# Altium integrated library ALTIUM-WE-LQS-rev18a.IntLib: 212 symbols (part 3 of 3)
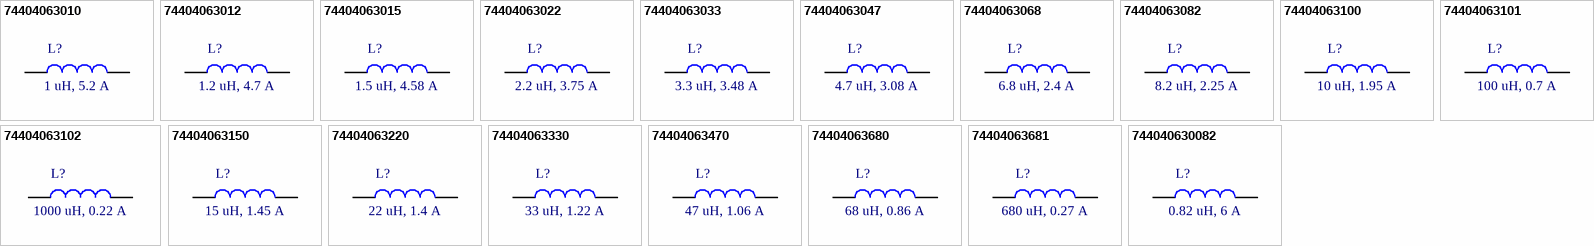
[diagram p14: symbols 74404063010 to 744040630082]

## 74404063470
designator L?, comment 47 uH, 1.06 A
SMT Semi-Shielded Power Inductor WE-LQS, size 6028, 47 uH, 1.06 A; Part Number: 74404063470; Rated Current: 1.06 A; Inductance: 47 uH; DC Resistance max.: 409.5 mOhm; Self Resonant Frequency: 14 MHz; Saturation Current: 1.3 A; ComponentLink1Description: Manufacturer; ComponentLink1URL: http://www.we-online.de; ComponentLink2Description: Datasheet; ComponentLink2URL: https://katalog.we-online.de/pbs/datasheet/74404063470.pdf; Published Date: November 2018; Publisher: Wurth Elektronik; Size: 6028; Operating Temperature: -40 to +125 degC; Mounting Technology: SMT; Packaging: Tape and Reel
footprint WE-LQS_6028
pins: 1, 2

## 74404063680
designator L?, comment 68 uH, 0.86 A
SMT Semi-Shielded Power Inductor WE-LQS, size 6028, 68 uH, 0.86 A; Part Number: 74404063680; Rated Current: 0.86 A; Inductance: 68 uH; DC Resistance max.: 468 mOhm; Self Resonant Frequency: 11 MHz; Saturation Current: 0.88 A; ComponentLink1Description: Manufacturer; ComponentLink1URL: http://www.we-online.de; ComponentLink2Description: Datasheet; ComponentLink2URL: https://katalog.we-online.de/pbs/datasheet/74404063680.pdf; Published Date: November 2018; Publisher: Wurth Elektronik; Size: 6028; Operating Temperature: -40 to +125 degC; Mounting Technology: SMT; Packaging: Tape and Reel
footprint WE-LQS_6028
pins: 1, 2

## 74404063681
designator L?, comment 680 uH, 0.27 A
SMT Semi-Shielded Power Inductor WE-LQS, size 6028, 680 uH, 0.27 A; Part Number: 74404063681; Rated Current: 0.27 A; Inductance: 680 uH; DC Resistance max.: 7183.8 mOhm; Self Resonant Frequency: 3 MHz; Saturation Current: 0.29 A; ComponentLink1Description: Manufacturer; ComponentLink1URL: http://www.we-online.de; ComponentLink2Description: Datasheet; ComponentLink2URL: https://katalog.we-online.de/pbs/datasheet/74404063681.pdf; Published Date: November 2018; Publisher: Wurth Elektronik; Size: 6028; Operating Temperature: -40 to +125 degC; Mounting Technology: SMT; Packaging: Tape and Reel
footprint WE-LQS_6028
pins: 1, 2

## 744040630082
designator L?, comment 0.82 uH, 6 A
SMT Semi-Shielded Power Inductor WE-LQS, size 6028, 0.82 uH, 6 A; Part Number: 744040630082; Rated Current: 6 A; Inductance: 0.82 uH; DC Resistance max.: 13 mOhm; Self Resonant Frequency: 144 MHz; Saturation Current: 9.5 A; ComponentLink1Description: Manufacturer; ComponentLink1URL: http://www.we-online.de; ComponentLink2Description: Datasheet; ComponentLink2URL: https://katalog.we-online.de/pbs/datasheet/744040630082.pdf; Published Date: November 2018; Publisher: Wurth Elektronik; Size: 6028; Operating Temperature: -40 to +125 degC; Mounting Technology: SMT; Packaging: Tape and Reel
footprint WE-LQS_6028
pins: 1, 2


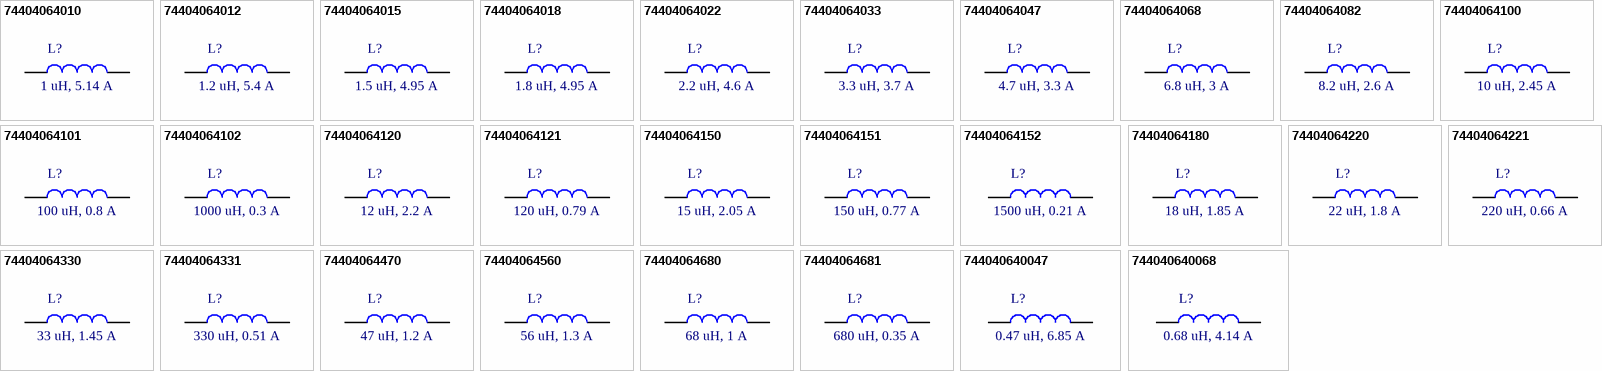
[diagram p10: symbols 74404064010 to 744040640068]

## 74404064010
designator L?, comment 1 uH, 5.14 A
SMT Semi-Shielded Power Inductor WE-LQS, size 6045, 1 uH, 5.14 A; Part Number: 74404064010; Rated Current: 5.14 A; Inductance: 1 uH; DC Resistance max.: 14.3 mOhm; Self Resonant Frequency: 100 MHz; Saturation Current: 11 A; ComponentLink1Description: Manufacturer; ComponentLink1URL: http://www.we-online.de; ComponentLink2Description: Datasheet; ComponentLink2URL: https://katalog.we-online.de/pbs/datasheet/74404064010.pdf; Published Date: November 2018; Publisher: Wurth Elektronik; Size: 6045; Operating Temperature: -40 to +125 degC; Mounting Technology: SMT; Packaging: Tape and Reel
footprint WE-LQS_6045
pins: 1, 2

## 74404064012
designator L?, comment 1.2 uH, 5.4 A
SMT Semi-Shielded Power Inductor WE-LQS, size 6045, 1.2 uH, 5.4 A; Part Number: 74404064012; Rated Current: 5.4 A; Inductance: 1.2 uH; DC Resistance max.: 13 mOhm; Self Resonant Frequency: 100 MHz; Saturation Current: 10.5 A; ComponentLink1Description: Manufacturer; ComponentLink1URL: http://www.we-online.de; ComponentLink2Description: Datasheet; ComponentLink2URL: https://katalog.we-online.de/pbs/datasheet/74404064012.pdf; Published Date: November 2018; Publisher: Wurth Elektronik; Size: 6045; Operating Temperature: -40 to +125 degC; Mounting Technology: SMT; Packaging: Tape and Reel
footprint WE-LQS_6045
pins: 1, 2

## 74404064015
designator L?, comment 1.5 uH, 4.95 A
SMT Semi-Shielded Power Inductor WE-LQS, size 6045, 1.5 uH, 4.95 A; Part Number: 74404064015; Rated Current: 4.95 A; Inductance: 1.5 uH; DC Resistance max.: 15.6 mOhm; Self Resonant Frequency: 65 MHz; Saturation Current: 9.7 A; ComponentLink1Description: Manufacturer; ComponentLink1URL: http://www.we-online.de; ComponentLink2Description: Datasheet; ComponentLink2URL: https://katalog.we-online.de/pbs/datasheet/74404064015.pdf; Published Date: November 2018; Publisher: Wurth Elektronik; Size: 6045; Operating Temperature: -40 to +125 degC; Mounting Technology: SMT; Packaging: Tape and Reel
footprint WE-LQS_6045
pins: 1, 2

## 74404064018
designator L?, comment 1.8 uH, 4.95 A
SMT Semi-Shielded Power Inductor WE-LQS, size 6045, 1.8 uH, 4.95 A; Part Number: 74404064018; Rated Current: 4.95 A; Inductance: 1.8 uH; DC Resistance max.: 15.6 mOhm; Self Resonant Frequency: 74 MHz; Saturation Current: 8.4 A; ComponentLink1Description: Manufacturer; ComponentLink1URL: http://www.we-online.de; ComponentLink2Description: Datasheet; ComponentLink2URL: https://katalog.we-online.de/pbs/datasheet/74404064018.pdf; Published Date: November 2018; Publisher: Wurth Elektronik; Size: 6045; Operating Temperature: -40 to +125 degC; Mounting Technology: SMT; Packaging: Tape and Reel
footprint WE-LQS_6045
pins: 1, 2

## 74404064022
designator L?, comment 2.2 uH, 4.6 A
SMT Semi-Shielded Power Inductor WE-LQS, size 6045, 2.2 uH, 4.6 A; Part Number: 74404064022; Rated Current: 4.6 A; Inductance: 2.2 uH; DC Resistance max.: 18.2 mOhm; Self Resonant Frequency: 52 MHz; Saturation Current: 7.4 A; ComponentLink1Description: Manufacturer; ComponentLink1URL: http://www.we-online.de; ComponentLink2Description: Datasheet; ComponentLink2URL: https://katalog.we-online.de/pbs/datasheet/74404064022.pdf; Published Date: November 2018; Publisher: Wurth Elektronik; Size: 6045; Operating Temperature: -40 to +125 degC; Mounting Technology: SMT; Packaging: Tape and Reel
footprint WE-LQS_6045
pins: 1, 2

## 74404064033
designator L?, comment 3.3 uH, 3.7 A
SMT Semi-Shielded Power Inductor WE-LQS, size 6045, 3.3 uH, 3.7 A; Part Number: 74404064033; Rated Current: 3.7 A; Inductance: 3.3 uH; DC Resistance max.: 27.3 mOhm; Self Resonant Frequency: 32 MHz; Saturation Current: 6.5 A; ComponentLink1Description: Manufacturer; ComponentLink1URL: http://www.we-online.de; ComponentLink2Description: Datasheet; ComponentLink2URL: https://katalog.we-online.de/pbs/datasheet/74404064033.pdf; Published Date: November 2018; Publisher: Wurth Elektronik; Size: 6045; Operating Temperature: -40 to +125 degC; Mounting Technology: SMT; Packaging: Tape and Reel
footprint WE-LQS_6045
pins: 1, 2

## 74404064047
designator L?, comment 4.7 uH, 3.3 A
SMT Semi-Shielded Power Inductor WE-LQS, size 6045, 4.7 uH, 3.3 A; Part Number: 74404064047; Rated Current: 3.3 A; Inductance: 4.7 uH; DC Resistance max.: 33.8 mOhm; Self Resonant Frequency: 24 MHz; Saturation Current: 5.5 A; ComponentLink1Description: Manufacturer; ComponentLink1URL: http://www.we-online.de; ComponentLink2Description: Datasheet; ComponentLink2URL: https://katalog.we-online.de/pbs/datasheet/74404064047.pdf; Published Date: November 2018; Publisher: Wurth Elektronik; Size: 6045; Operating Temperature: -40 to +125 degC; Mounting Technology: SMT; Packaging: Tape and Reel
footprint WE-LQS_6045
pins: 1, 2

## 74404064068
designator L?, comment 6.8 uH, 3 A
SMT Semi-Shielded Power Inductor WE-LQS, size 6045, 6.8 uH, 3 A; Part Number: 74404064068; Rated Current: 3 A; Inductance: 6.8 uH; DC Resistance max.: 40.3 mOhm; Self Resonant Frequency: 20 MHz; Saturation Current: 4.3 A; ComponentLink1Description: Manufacturer; ComponentLink1URL: http://www.we-online.de; ComponentLink2Description: Datasheet; ComponentLink2URL: https://katalog.we-online.de/pbs/datasheet/74404064068.pdf; Published Date: November 2018; Publisher: Wurth Elektronik; Size: 6045; Operating Temperature: -40 to +125 degC; Mounting Technology: SMT; Packaging: Tape and Reel
footprint WE-LQS_6045
pins: 1, 2

## 74404064082
designator L?, comment 8.2 uH, 2.6 A
SMT Semi-Shielded Power Inductor WE-LQS, size 6045, 8.2 uH, 2.6 A; Part Number: 74404064082; Rated Current: 2.6 A; Inductance: 8.2 uH; DC Resistance max.: 55.9 mOhm; Self Resonant Frequency: 21 MHz; Saturation Current: 4.3 A; ComponentLink1Description: Manufacturer; ComponentLink1URL: http://www.we-online.de; ComponentLink2Description: Datasheet; ComponentLink2URL: https://katalog.we-online.de/pbs/datasheet/74404064082.pdf; Published Date: November 2018; Publisher: Wurth Elektronik; Size: 6045; Operating Temperature: -40 to +125 degC; Mounting Technology: SMT; Packaging: Tape and Reel
footprint WE-LQS_6045
pins: 1, 2

## 74404064100
designator L?, comment 10 uH, 2.45 A
SMT Semi-Shielded Power Inductor WE-LQS, size 6045, 10 uH, 2.45 A; Part Number: 74404064100; Rated Current: 2.45 A; Inductance: 10 uH; DC Resistance max.: 62.4 mOhm; Self Resonant Frequency: 15 MHz; Saturation Current: 3.5 A; ComponentLink1Description: Manufacturer; ComponentLink1URL: http://www.we-online.de; ComponentLink2Description: Datasheet; ComponentLink2URL: https://katalog.we-online.de/pbs/datasheet/74404064100.pdf; Published Date: November 2018; Publisher: Wurth Elektronik; Size: 6045; Operating Temperature: -40 to +125 degC; Mounting Technology: SMT; Packaging: Tape and Reel
footprint WE-LQS_6045
pins: 1, 2

## 74404064101
designator L?, comment 100 uH, 0.8 A
SMT Semi-Shielded Power Inductor WE-LQS, size 6045, 100 uH, 0.8 A; Part Number: 74404064101; Rated Current: 0.8 A; Inductance: 100 uH; DC Resistance max.: 562.9 mOhm; Self Resonant Frequency: 4.2 MHz; Saturation Current: 1 A; ComponentLink1Description: Manufacturer; ComponentLink1URL: http://www.we-online.de; ComponentLink2Description: Datasheet; ComponentLink2URL: https://katalog.we-online.de/pbs/datasheet/74404064101.pdf; Published Date: November 2018; Publisher: Wurth Elektronik; Size: 6045; Operating Temperature: -40 to +125 degC; Mounting Technology: SMT; Packaging: Tape and Reel
footprint WE-LQS_6045
pins: 1, 2

## 74404064102
designator L?, comment 1000 uH, 0.3 A
SMT Semi-Shielded Power Inductor WE-LQS, size 6045, 1000 uH, 0.3 A; Part Number: 74404064102; Rated Current: 0.3 A; Inductance: 1000 uH; DC Resistance max.: 6217.9 mOhm; Self Resonant Frequency: 1.86 MHz; Saturation Current: 0.37 A; ComponentLink1Description: Manufacturer; ComponentLink1URL: http://www.we-online.de; ComponentLink2Description: Datasheet; ComponentLink2URL: https://katalog.we-online.de/pbs/datasheet/74404064102.pdf; Published Date: November 2018; Publisher: Wurth Elektronik; Size: 6045; Operating Temperature: -40 to +125 degC; Mounting Technology: SMT; Packaging: Tape and Reel
footprint WE-LQS_6045
pins: 1, 2

## 74404064120
designator L?, comment 12 uH, 2.2 A
SMT Semi-Shielded Power Inductor WE-LQS, size 6045, 12 uH, 2.2 A; Part Number: 74404064120; Rated Current: 2.2 A; Inductance: 12 uH; DC Resistance max.: 75.4 mOhm; Self Resonant Frequency: 13 MHz; Saturation Current: 3 A; ComponentLink1Description: Manufacturer; ComponentLink1URL: http://www.we-online.de; ComponentLink2Description: Datasheet; ComponentLink2URL: https://katalog.we-online.de/pbs/datasheet/74404064120.pdf; Published Date: November 2018; Publisher: Wurth Elektronik; Size: 6045; Operating Temperature: -40 to +125 degC; Mounting Technology: SMT; Packaging: Tape and Reel
footprint WE-LQS_6045
pins: 1, 2

## 74404064121
designator L?, comment 120 uH, 0.79 A
SMT Semi-Shielded Power Inductor WE-LQS, size 6045, 120 uH, 0.79 A; Part Number: 74404064121; Rated Current: 0.79 A; Inductance: 120 uH; DC Resistance max.: 676 mOhm; Self Resonant Frequency: 5.78 MHz; Saturation Current: 0.98 A; ComponentLink1Description: Manufacturer; ComponentLink1URL: http://www.we-online.de; ComponentLink2Description: Datasheet; ComponentLink2URL: https://katalog.we-online.de/pbs/datasheet/74404064121.pdf; Published Date: November 2018; Publisher: Wurth Elektronik; Size: 6045; Operating Temperature: -40 to +125 degC; Mounting Technology: SMT; Packaging: Tape and Reel
footprint WE-LQS_6045
pins: 1, 2

## 74404064150
designator L?, comment 15 uH, 2.05 A
SMT Semi-Shielded Power Inductor WE-LQS, size 6045, 15 uH, 2.05 A; Part Number: 74404064150; Rated Current: 2.05 A; Inductance: 15 uH; DC Resistance max.: 88.4 mOhm; Self Resonant Frequency: 12 MHz; Saturation Current: 2.7 A; ComponentLink1Description: Manufacturer; ComponentLink1URL: http://www.we-online.de; ComponentLink2Description: Datasheet; ComponentLink2URL: https://katalog.we-online.de/pbs/datasheet/74404064150.pdf; Published Date: November 2018; Publisher: Wurth Elektronik; Size: 6045; Operating Temperature: -40 to +125 degC; Mounting Technology: SMT; Packaging: Tape and Reel
footprint WE-LQS_6045
pins: 1, 2

## 74404064151
designator L?, comment 150 uH, 0.77 A
SMT Semi-Shielded Power Inductor WE-LQS, size 6045, 150 uH, 0.77 A; Part Number: 74404064151; Rated Current: 0.77 A; Inductance: 150 uH; DC Resistance max.: 741 mOhm; Self Resonant Frequency: 5.4 MHz; Saturation Current: 0.93 A; ComponentLink1Description: Manufacturer; ComponentLink1URL: http://www.we-online.de; ComponentLink2Description: Datasheet; ComponentLink2URL: https://katalog.we-online.de/pbs/datasheet/74404064151.pdf; Published Date: November 2018; Publisher: Wurth Elektronik; Size: 6045; Operating Temperature: -40 to +125 degC; Mounting Technology: SMT; Packaging: Tape and Reel
footprint WE-LQS_6045
pins: 1, 2

## 74404064152
designator L?, comment 1500 uH, 0.21 A
SMT Semi-Shielded Power Inductor WE-LQS, size 6045, 1500 uH, 0.21 A; Part Number: 74404064152; Rated Current: 0.21 A; Inductance: 1500 uH; DC Resistance max.: 9085.7 mOhm; Self Resonant Frequency: 1.32 MHz; Saturation Current: 0.28 A; ComponentLink1Description: Manufacturer; ComponentLink1URL: http://www.we-online.de; ComponentLink2Description: Datasheet; ComponentLink2URL: https://katalog.we-online.de/pbs/datasheet/74404064152.pdf; Published Date: November 2018; Publisher: Wurth Elektronik; Size: 6045; Operating Temperature: -40 to +125 degC; Mounting Technology: SMT; Packaging: Tape and Reel
footprint WE-LQS_6045
pins: 1, 2

## 74404064180
designator L?, comment 18 uH, 1.85 A
SMT Semi-Shielded Power Inductor WE-LQS, size 6045, 18 uH, 1.85 A; Part Number: 74404064180; Rated Current: 1.85 A; Inductance: 18 uH; DC Resistance max.: 105.3 mOhm; Self Resonant Frequency: 10 MHz; Saturation Current: 2.4 A; ComponentLink1Description: Manufacturer; ComponentLink1URL: http://www.we-online.de; ComponentLink2Description: Datasheet; ComponentLink2URL: https://katalog.we-online.de/pbs/datasheet/74404064180.pdf; Published Date: November 2018; Publisher: Wurth Elektronik; Size: 6045; Operating Temperature: -40 to +125 degC; Mounting Technology: SMT; Packaging: Tape and Reel
footprint WE-LQS_6045
pins: 1, 2

## 74404064220
designator L?, comment 22 uH, 1.8 A
SMT Semi-Shielded Power Inductor WE-LQS, size 6045, 22 uH, 1.8 A; Part Number: 74404064220; Rated Current: 1.8 A; Inductance: 22 uH; DC Resistance max.: 115.7 mOhm; Self Resonant Frequency: 10 MHz; Saturation Current: 2.2 A; ComponentLink1Description: Manufacturer; ComponentLink1URL: http://www.we-online.de; ComponentLink2Description: Datasheet; ComponentLink2URL: https://katalog.we-online.de/pbs/datasheet/74404064220.pdf; Published Date: November 2018; Publisher: Wurth Elektronik; Size: 6045; Operating Temperature: -40 to +125 degC; Mounting Technology: SMT; Packaging: Tape and Reel
footprint WE-LQS_6045
pins: 1, 2

## 74404064221
designator L?, comment 220 uH, 0.66 A
SMT Semi-Shielded Power Inductor WE-LQS, size 6045, 220 uH, 0.66 A; Part Number: 74404064221; Rated Current: 0.66 A; Inductance: 220 uH; DC Resistance max.: 1105 mOhm; Self Resonant Frequency: 3.97 MHz; Saturation Current: 0.75 A; ComponentLink1Description: Manufacturer; ComponentLink1URL: http://www.we-online.de; ComponentLink2Description: Datasheet; ComponentLink2URL: https://katalog.we-online.de/pbs/datasheet/74404064221.pdf; Published Date: November 2018; Publisher: Wurth Elektronik; Size: 6045; Operating Temperature: -40 to +125 degC; Mounting Technology: SMT; Packaging: Tape and Reel
footprint WE-LQS_6045
pins: 1, 2

## 74404064330
designator L?, comment 33 uH, 1.45 A
SMT Semi-Shielded Power Inductor WE-LQS, size 6045, 33 uH, 1.45 A; Part Number: 74404064330; Rated Current: 1.45 A; Inductance: 33 uH; DC Resistance max.: 178.1 mOhm; Self Resonant Frequency: 7.8 MHz; Saturation Current: 1.8 A; ComponentLink1Description: Manufacturer; ComponentLink1URL: http://www.we-online.de; ComponentLink2Description: Datasheet; ComponentLink2URL: https://katalog.we-online.de/pbs/datasheet/74404064330.pdf; Published Date: November 2018; Publisher: Wurth Elektronik; Size: 6045; Operating Temperature: -40 to +125 degC; Mounting Technology: SMT; Packaging: Tape and Reel
footprint WE-LQS_6045
pins: 1, 2

## 74404064331
designator L?, comment 330 uH, 0.51 A
SMT Semi-Shielded Power Inductor WE-LQS, size 6045, 330 uH, 0.51 A; Part Number: 74404064331; Rated Current: 0.51 A; Inductance: 330 uH; DC Resistance max.: 1530.1 mOhm; Self Resonant Frequency: 3.42 MHz; Saturation Current: 0.65 A; ComponentLink1Description: Manufacturer; ComponentLink1URL: http://www.we-online.de; ComponentLink2Description: Datasheet; ComponentLink2URL: https://katalog.we-online.de/pbs/datasheet/74404064331.pdf; Published Date: November 2018; Publisher: Wurth Elektronik; Size: 6045; Operating Temperature: -40 to +125 degC; Mounting Technology: SMT; Packaging: Tape and Reel
footprint WE-LQS_6045
pins: 1, 2

## 74404064470
designator L?, comment 47 uH, 1.2 A
SMT Semi-Shielded Power Inductor WE-LQS, size 6045, 47 uH, 1.2 A; Part Number: 74404064470; Rated Current: 1.2 A; Inductance: 47 uH; DC Resistance max.: 260 mOhm; Self Resonant Frequency: 6.4 MHz; Saturation Current: 1.5 A; ComponentLink1Description: Manufacturer; ComponentLink1URL: http://www.we-online.de; ComponentLink2Description: Datasheet; ComponentLink2URL: https://katalog.we-online.de/pbs/datasheet/74404064470.pdf; Published Date: November 2018; Publisher: Wurth Elektronik; Size: 6045; Operating Temperature: -40 to +125 degC; Mounting Technology: SMT; Packaging: Tape and Reel
footprint WE-LQS_6045
pins: 1, 2

## 74404064560
designator L?, comment 56 uH, 1.3 A
SMT Semi-Shielded Power Inductor WE-LQS, size 6045, 56 uH, 1.3 A; Part Number: 74404064560; Rated Current: 1.3 A; Inductance: 56 uH; DC Resistance max.: 286 mOhm; Self Resonant Frequency: 8.3 MHz; Saturation Current: 1.5 A; ComponentLink1Description: Manufacturer; ComponentLink1URL: http://www.we-online.de; ComponentLink2Description: Datasheet; ComponentLink2URL: https://katalog.we-online.de/pbs/datasheet/74404064560.pdf; Published Date: November 2018; Publisher: Wurth Elektronik; Size: 6045; Operating Temperature: -40 to +125 degC; Mounting Technology: SMT; Packaging: Tape and Reel
footprint WE-LQS_6045
pins: 1, 2

## 74404064680
designator L?, comment 68 uH, 1 A
SMT Semi-Shielded Power Inductor WE-LQS, size 6045, 68 uH, 1 A; Part Number: 74404064680; Rated Current: 1 A; Inductance: 68 uH; DC Resistance max.: 375.7 mOhm; Self Resonant Frequency: 6.4 MHz; Saturation Current: 1.3 A; ComponentLink1Description: Manufacturer; ComponentLink1URL: http://www.we-online.de; ComponentLink2Description: Datasheet; ComponentLink2URL: https://katalog.we-online.de/pbs/datasheet/74404064680.pdf; Published Date: November 2018; Publisher: Wurth Elektronik; Size: 6045; Operating Temperature: -40 to +125 degC; Mounting Technology: SMT; Packaging: Tape and Reel
footprint WE-LQS_6045
pins: 1, 2

## 74404064681
designator L?, comment 680 uH, 0.35 A
SMT Semi-Shielded Power Inductor WE-LQS, size 6045, 680 uH, 0.35 A; Part Number: 74404064681; Rated Current: 0.35 A; Inductance: 680 uH; DC Resistance max.: 3445 mOhm; Self Resonant Frequency: 1.95 MHz; Saturation Current: 0.42 A; ComponentLink1Description: Manufacturer; ComponentLink1URL: http://www.we-online.de; ComponentLink2Description: Datasheet; ComponentLink2URL: https://katalog.we-online.de/pbs/datasheet/74404064681.pdf; Published Date: November 2018; Publisher: Wurth Elektronik; Size: 6045; Operating Temperature: -40 to +125 degC; Mounting Technology: SMT; Packaging: Tape and Reel
footprint WE-LQS_6045
pins: 1, 2

## 744040640047
designator L?, comment 0.47 uH, 6.85 A
SMT Semi-Shielded Power Inductor WE-LQS, size 6045, 0.47 uH, 6.85 A; Part Number: 744040640047; Rated Current: 6.85 A; Inductance: 0.47 uH; DC Resistance max.: 7.8 mOhm; Self Resonant Frequency: 235 MHz; Saturation Current: 16 A; ComponentLink1Description: Manufacturer; ComponentLink1URL: http://www.we-online.de; ComponentLink2Description: Datasheet; ComponentLink2URL: https://katalog.we-online.de/pbs/datasheet/744040640047.pdf; Published Date: November 2018; Publisher: Wurth Elektronik; Size: 6045; Operating Temperature: -40 to +125 degC; Mounting Technology: SMT; Packaging: Tape and Reel
footprint WE-LQS_6045
pins: 1, 2

## 744040640068
designator L?, comment 0.68 uH, 4.14 A
SMT Semi-Shielded Power Inductor WE-LQS, size 6045, 0.68 uH, 4.14 A; Part Number: 744040640068; Rated Current: 4.14 A; Inductance: 0.68 uH; DC Resistance max.: 13 mOhm; Self Resonant Frequency: 169 MHz; Saturation Current: 10 A; ComponentLink1Description: Manufacturer; ComponentLink1URL: http://www.we-online.de; ComponentLink2Description: Datasheet; ComponentLink2URL: https://katalog.we-online.de/pbs/datasheet/744040640068.pdf; Published Date: November 2018; Publisher: Wurth Elektronik; Size: 6045; Operating Temperature: -40 to +125 degC; Mounting Technology: SMT; Packaging: Tape and Reel
footprint WE-LQS_6045
pins: 1, 2


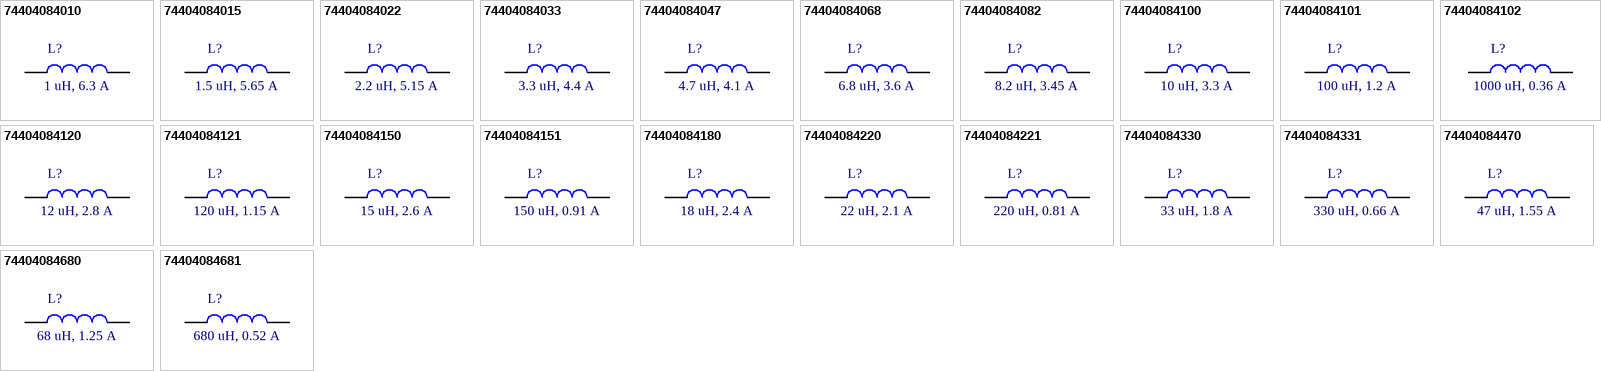
[diagram p11: symbols 74404084010 to 74404084681]

## 74404084010
designator L?, comment 1 uH, 6.3 A
SMT Semi-Shielded Power Inductor WE-LQS, size 8040, 1 uH, 6.3 A; Part Number: 74404084010; Rated Current: 6.3 A; Inductance: 1 uH; DC Resistance max.: 10.4 mOhm; Self Resonant Frequency: 89 MHz; Saturation Current: 13.5 A; ComponentLink1Description: Manufacturer; ComponentLink1URL: http://www.we-online.de; ComponentLink2Description: Datasheet; ComponentLink2URL: https://katalog.we-online.de/pbs/datasheet/74404084010.pdf; Published Date: November 2018; Publisher: Wurth Elektronik; Size: 8040; Operating Temperature: -40 to +125 degC; Mounting Technology: SMT; Packaging: Tape and Reel
footprint WE-LQS_8040
pins: 1, 2

## 74404084015
designator L?, comment 1.5 uH, 5.65 A
SMT Semi-Shielded Power Inductor WE-LQS, size 8040, 1.5 uH, 5.65 A; Part Number: 74404084015; Rated Current: 5.65 A; Inductance: 1.5 uH; DC Resistance max.: 13 mOhm; Self Resonant Frequency: 67 MHz; Saturation Current: 9 A; ComponentLink1Description: Manufacturer; ComponentLink1URL: http://www.we-online.de; ComponentLink2Description: Datasheet; ComponentLink2URL: https://katalog.we-online.de/pbs/datasheet/74404084015.pdf; Published Date: November 2018; Publisher: Wurth Elektronik; Size: 8040; Operating Temperature: -40 to +125 degC; Mounting Technology: SMT; Packaging: Tape and Reel
footprint WE-LQS_8040
pins: 1, 2

## 74404084022
designator L?, comment 2.2 uH, 5.15 A
SMT Semi-Shielded Power Inductor WE-LQS, size 8040, 2.2 uH, 5.15 A; Part Number: 74404084022; Rated Current: 5.15 A; Inductance: 2.2 uH; DC Resistance max.: 15.6 mOhm; Self Resonant Frequency: 41 MHz; Saturation Current: 7.8 A; ComponentLink1Description: Manufacturer; ComponentLink1URL: http://www.we-online.de; ComponentLink2Description: Datasheet; ComponentLink2URL: https://katalog.we-online.de/pbs/datasheet/74404084022.pdf; Published Date: November 2018; Publisher: Wurth Elektronik; Size: 8040; Operating Temperature: -40 to +125 degC; Mounting Technology: SMT; Packaging: Tape and Reel
footprint WE-LQS_8040
pins: 1, 2

## 74404084033
designator L?, comment 3.3 uH, 4.4 A
SMT Semi-Shielded Power Inductor WE-LQS, size 8040, 3.3 uH, 4.4 A; Part Number: 74404084033; Rated Current: 4.4 A; Inductance: 3.3 uH; DC Resistance max.: 22.1 mOhm; Self Resonant Frequency: 27 MHz; Saturation Current: 7.1 A; ComponentLink1Description: Manufacturer; ComponentLink1URL: http://www.we-online.de; ComponentLink2Description: Datasheet; ComponentLink2URL: https://katalog.we-online.de/pbs/datasheet/74404084033.pdf; Published Date: November 2018; Publisher: Wurth Elektronik; Size: 8040; Operating Temperature: -40 to +125 degC; Mounting Technology: SMT; Packaging: Tape and Reel
footprint WE-LQS_8040
pins: 1, 2

## 74404084047
designator L?, comment 4.7 uH, 4.1 A
SMT Semi-Shielded Power Inductor WE-LQS, size 8040, 4.7 uH, 4.1 A; Part Number: 74404084047; Rated Current: 4.1 A; Inductance: 4.7 uH; DC Resistance max.: 24.7 mOhm; Self Resonant Frequency: 24 MHz; Saturation Current: 6.5 A; ComponentLink1Description: Manufacturer; ComponentLink1URL: http://www.we-online.de; ComponentLink2Description: Datasheet; ComponentLink2URL: https://katalog.we-online.de/pbs/datasheet/74404084047.pdf; Published Date: November 2018; Publisher: Wurth Elektronik; Size: 8040; Operating Temperature: -40 to +125 degC; Mounting Technology: SMT; Packaging: Tape and Reel
footprint WE-LQS_8040
pins: 1, 2

## 74404084068
designator L?, comment 6.8 uH, 3.6 A
SMT Semi-Shielded Power Inductor WE-LQS, size 8040, 6.8 uH, 3.6 A; Part Number: 74404084068; Rated Current: 3.6 A; Inductance: 6.8 uH; DC Resistance max.: 31.2 mOhm; Self Resonant Frequency: 20 MHz; Saturation Current: 5 A; ComponentLink1Description: Manufacturer; ComponentLink1URL: http://www.we-online.de; ComponentLink2Description: Datasheet; ComponentLink2URL: https://katalog.we-online.de/pbs/datasheet/74404084068.pdf; Published Date: November 2018; Publisher: Wurth Elektronik; Size: 8040; Operating Temperature: -40 to +125 degC; Mounting Technology: SMT; Packaging: Tape and Reel
footprint WE-LQS_8040
pins: 1, 2

## 74404084082
designator L?, comment 8.2 uH, 3.45 A
SMT Semi-Shielded Power Inductor WE-LQS, size 8040, 8.2 uH, 3.45 A; Part Number: 74404084082; Rated Current: 3.45 A; Inductance: 8.2 uH; DC Resistance max.: 33.8 mOhm; Self Resonant Frequency: 17 MHz; Saturation Current: 4.6 A; ComponentLink1Description: Manufacturer; ComponentLink1URL: http://www.we-online.de; ComponentLink2Description: Datasheet; ComponentLink2URL: https://katalog.we-online.de/pbs/datasheet/74404084082.pdf; Published Date: November 2018; Publisher: Wurth Elektronik; Size: 8040; Operating Temperature: -40 to +125 degC; Mounting Technology: SMT; Packaging: Tape and Reel
footprint WE-LQS_8040
pins: 1, 2

## 74404084100
designator L?, comment 10 uH, 3.3 A
SMT Semi-Shielded Power Inductor WE-LQS, size 8040, 10 uH, 3.3 A; Part Number: 74404084100; Rated Current: 3.3 A; Inductance: 10 uH; DC Resistance max.: 37.7 mOhm; Self Resonant Frequency: 15 MHz; Saturation Current: 4.6 A; ComponentLink1Description: Manufacturer; ComponentLink1URL: http://www.we-online.de; ComponentLink2Description: Datasheet; ComponentLink2URL: https://katalog.we-online.de/pbs/datasheet/74404084100.pdf; Published Date: November 2018; Publisher: Wurth Elektronik; Size: 8040; Operating Temperature: -40 to +125 degC; Mounting Technology: SMT; Packaging: Tape and Reel
footprint WE-LQS_8040
pins: 1, 2

## 74404084101
designator L?, comment 100 uH, 1.2 A
SMT Semi-Shielded Power Inductor WE-LQS, size 8040, 100 uH, 1.2 A; Part Number: 74404084101; Rated Current: 1.2 A; Inductance: 100 uH; DC Resistance max.: 377 mOhm; Self Resonant Frequency: 4.2 MHz; Saturation Current: 1.5 A; ComponentLink1Description: Manufacturer; ComponentLink1URL: http://www.we-online.de; ComponentLink2Description: Datasheet; ComponentLink2URL: https://katalog.we-online.de/pbs/datasheet/74404084101.pdf; Published Date: November 2018; Publisher: Wurth Elektronik; Size: 8040; Operating Temperature: -40 to +125 degC; Mounting Technology: SMT; Packaging: Tape and Reel
footprint WE-LQS_8040
pins: 1, 2

## 74404084102
designator L?, comment 1000 uH, 0.36 A
SMT Semi-Shielded Power Inductor WE-LQS, size 8040, 1000 uH, 0.36 A; Part Number: 74404084102; Rated Current: 0.36 A; Inductance: 1000 uH; DC Resistance max.: 3731 mOhm; Self Resonant Frequency: 2 MHz; Saturation Current: 0.45 A; ComponentLink1Description: Manufacturer; ComponentLink1URL: http://www.we-online.de; ComponentLink2Description: Datasheet; ComponentLink2URL: https://katalog.we-online.de/pbs/datasheet/74404084102.pdf; Published Date: November 2018; Publisher: Wurth Elektronik; Size: 8040; Operating Temperature: -40 to +125 degC; Mounting Technology: SMT; Packaging: Tape and Reel
footprint WE-LQS_8040
pins: 1, 2

## 74404084120
designator L?, comment 12 uH, 2.8 A
SMT Semi-Shielded Power Inductor WE-LQS, size 8040, 12 uH, 2.8 A; Part Number: 74404084120; Rated Current: 2.8 A; Inductance: 12 uH; DC Resistance max.: 52 mOhm; Self Resonant Frequency: 13 MHz; Saturation Current: 3.8 A; ComponentLink1Description: Manufacturer; ComponentLink1URL: http://www.we-online.de; ComponentLink2Description: Datasheet; ComponentLink2URL: https://katalog.we-online.de/pbs/datasheet/74404084120.pdf; Published Date: November 2018; Publisher: Wurth Elektronik; Size: 8040; Operating Temperature: -40 to +125 degC; Mounting Technology: SMT; Packaging: Tape and Reel
footprint WE-LQS_8040
pins: 1, 2

## 74404084121
designator L?, comment 120 uH, 1.15 A
SMT Semi-Shielded Power Inductor WE-LQS, size 8040, 120 uH, 1.15 A; Part Number: 74404084121; Rated Current: 1.15 A; Inductance: 120 uH; DC Resistance max.: 451.1 mOhm; Self Resonant Frequency: 6 MHz; Saturation Current: 1.45 A; ComponentLink1Description: Manufacturer; ComponentLink1URL: http://www.we-online.de; ComponentLink2Description: Datasheet; ComponentLink2URL: https://katalog.we-online.de/pbs/datasheet/74404084121.pdf; Published Date: November 2018; Publisher: Wurth Elektronik; Size: 8040; Operating Temperature: -40 to +125 degC; Mounting Technology: SMT; Packaging: Tape and Reel
footprint WE-LQS_8040
pins: 1, 2

## 74404084150
designator L?, comment 15 uH, 2.6 A
SMT Semi-Shielded Power Inductor WE-LQS, size 8040, 15 uH, 2.6 A; Part Number: 74404084150; Rated Current: 2.6 A; Inductance: 15 uH; DC Resistance max.: 61.1 mOhm; Self Resonant Frequency: 12 MHz; Saturation Current: 3.2 A; ComponentLink1Description: Manufacturer; ComponentLink1URL: http://www.we-online.de; ComponentLink2Description: Datasheet; ComponentLink2URL: https://katalog.we-online.de/pbs/datasheet/74404084150.pdf; Published Date: November 2018; Publisher: Wurth Elektronik; Size: 8040; Operating Temperature: -40 to +125 degC; Mounting Technology: SMT; Packaging: Tape and Reel
footprint WE-LQS_8040
pins: 1, 2

## 74404084151
designator L?, comment 150 uH, 0.91 A
SMT Semi-Shielded Power Inductor WE-LQS, size 8040, 150 uH, 0.91 A; Part Number: 74404084151; Rated Current: 0.91 A; Inductance: 150 uH; DC Resistance max.: 621.4 mOhm; Self Resonant Frequency: 5.31 MHz; Saturation Current: 1.25 A; ComponentLink1Description: Manufacturer; ComponentLink1URL: http://www.we-online.de; ComponentLink2Description: Datasheet; ComponentLink2URL: https://katalog.we-online.de/pbs/datasheet/74404084151.pdf; Published Date: November 2018; Publisher: Wurth Elektronik; Size: 8040; Operating Temperature: -40 to +125 degC; Mounting Technology: SMT; Packaging: Tape and Reel
footprint WE-LQS_8040
pins: 1, 2

## 74404084180
designator L?, comment 18 uH, 2.4 A
SMT Semi-Shielded Power Inductor WE-LQS, size 8040, 18 uH, 2.4 A; Part Number: 74404084180; Rated Current: 2.4 A; Inductance: 18 uH; DC Resistance max.: 68.9 mOhm; Self Resonant Frequency: 11 MHz; Saturation Current: 2.9 A; ComponentLink1Description: Manufacturer; ComponentLink1URL: http://www.we-online.de; ComponentLink2Description: Datasheet; ComponentLink2URL: https://katalog.we-online.de/pbs/datasheet/74404084180.pdf; Published Date: November 2018; Publisher: Wurth Elektronik; Size: 8040; Operating Temperature: -40 to +125 degC; Mounting Technology: SMT; Packaging: Tape and Reel
footprint WE-LQS_8040
pins: 1, 2

## 74404084220
designator L?, comment 22 uH, 2.1 A
SMT Semi-Shielded Power Inductor WE-LQS, size 8040, 22 uH, 2.1 A; Part Number: 74404084220; Rated Current: 2.1 A; Inductance: 22 uH; DC Resistance max.: 89.7 mOhm; Self Resonant Frequency: 9.5 MHz; Saturation Current: 2.6 A; ComponentLink1Description: Manufacturer; ComponentLink1URL: http://www.we-online.de; ComponentLink2Description: Datasheet; ComponentLink2URL: https://katalog.we-online.de/pbs/datasheet/74404084220.pdf; Published Date: November 2018; Publisher: Wurth Elektronik; Size: 8040; Operating Temperature: -40 to +125 degC; Mounting Technology: SMT; Packaging: Tape and Reel
footprint WE-LQS_8040
pins: 1, 2

## 74404084221
designator L?, comment 220 uH, 0.81 A
SMT Semi-Shielded Power Inductor WE-LQS, size 8040, 220 uH, 0.81 A; Part Number: 74404084221; Rated Current: 0.81 A; Inductance: 220 uH; DC Resistance max.: 769.6 mOhm; Self Resonant Frequency: 4.5 MHz; Saturation Current: 1.1 A; ComponentLink1Description: Manufacturer; ComponentLink1URL: http://www.we-online.de; ComponentLink2Description: Datasheet; ComponentLink2URL: https://katalog.we-online.de/pbs/datasheet/74404084221.pdf; Published Date: November 2018; Publisher: Wurth Elektronik; Size: 8040; Operating Temperature: -40 to +125 degC; Mounting Technology: SMT; Packaging: Tape and Reel
footprint WE-LQS_8040
pins: 1, 2

## 74404084330
designator L?, comment 33 uH, 1.8 A
SMT Semi-Shielded Power Inductor WE-LQS, size 8040, 33 uH, 1.8 A; Part Number: 74404084330; Rated Current: 1.8 A; Inductance: 33 uH; DC Resistance max.: 126.1 mOhm; Self Resonant Frequency: 7.8 MHz; Saturation Current: 2.2 A; ComponentLink1Description: Manufacturer; ComponentLink1URL: http://www.we-online.de; ComponentLink2Description: Datasheet; ComponentLink2URL: https://katalog.we-online.de/pbs/datasheet/74404084330.pdf; Published Date: November 2018; Publisher: Wurth Elektronik; Size: 8040; Operating Temperature: -40 to +125 degC; Mounting Technology: SMT; Packaging: Tape and Reel
footprint WE-LQS_8040
pins: 1, 2

## 74404084331
designator L?, comment 330 uH, 0.66 A
SMT Semi-Shielded Power Inductor WE-LQS, size 8040, 330 uH, 0.66 A; Part Number: 74404084331; Rated Current: 0.66 A; Inductance: 330 uH; DC Resistance max.: 1124.5 mOhm; Self Resonant Frequency: 3.55 MHz; Saturation Current: 0.9 A; ComponentLink1Description: Manufacturer; ComponentLink1URL: http://www.we-online.de; ComponentLink2Description: Datasheet; ComponentLink2URL: https://katalog.we-online.de/pbs/datasheet/74404084331.pdf; Published Date: November 2018; Publisher: Wurth Elektronik; Size: 8040; Operating Temperature: -40 to +125 degC; Mounting Technology: SMT; Packaging: Tape and Reel
footprint WE-LQS_8040
pins: 1, 2

## 74404084470
designator L?, comment 47 uH, 1.55 A
SMT Semi-Shielded Power Inductor WE-LQS, size 8040, 47 uH, 1.55 A; Part Number: 74404084470; Rated Current: 1.55 A; Inductance: 47 uH; DC Resistance max.: 176.8 mOhm; Self Resonant Frequency: 6.4 MHz; Saturation Current: 1.9 A; ComponentLink1Description: Manufacturer; ComponentLink1URL: http://www.we-online.de; ComponentLink2Description: Datasheet; ComponentLink2URL: https://katalog.we-online.de/pbs/datasheet/74404084470.pdf; Published Date: November 2018; Publisher: Wurth Elektronik; Size: 8040; Operating Temperature: -40 to +125 degC; Mounting Technology: SMT; Packaging: Tape and Reel
footprint WE-LQS_8040
pins: 1, 2

## 74404084680
designator L?, comment 68 uH, 1.25 A
SMT Semi-Shielded Power Inductor WE-LQS, size 8040, 68 uH, 1.25 A; Part Number: 74404084680; Rated Current: 1.25 A; Inductance: 68 uH; DC Resistance max.: 254.8 mOhm; Self Resonant Frequency: 4.9 MHz; Saturation Current: 1.6 A; ComponentLink1Description: Manufacturer; ComponentLink1URL: http://www.we-online.de; ComponentLink2Description: Datasheet; ComponentLink2URL: https://katalog.we-online.de/pbs/datasheet/74404084680.pdf; Published Date: November 2018; Publisher: Wurth Elektronik; Size: 8040; Operating Temperature: -40 to +125 degC; Mounting Technology: SMT; Packaging: Tape and Reel
footprint WE-LQS_8040
pins: 1, 2

## 74404084681
designator L?, comment 680 uH, 0.52 A
SMT Semi-Shielded Power Inductor WE-LQS, size 8040, 680 uH, 0.52 A; Part Number: 74404084681; Rated Current: 0.52 A; Inductance: 680 uH; DC Resistance max.: 2641.6 mOhm; Self Resonant Frequency: 2.1 MHz; Saturation Current: 0.6 A; ComponentLink1Description: Manufacturer; ComponentLink1URL: http://www.we-online.de; ComponentLink2Description: Datasheet; ComponentLink2URL: https://katalog.we-online.de/pbs/datasheet/74404084681.pdf; Published Date: November 2018; Publisher: Wurth Elektronik; Size: 8040; Operating Temperature: -40 to +125 degC; Mounting Technology: SMT; Packaging: Tape and Reel
footprint WE-LQS_8040
pins: 1, 2


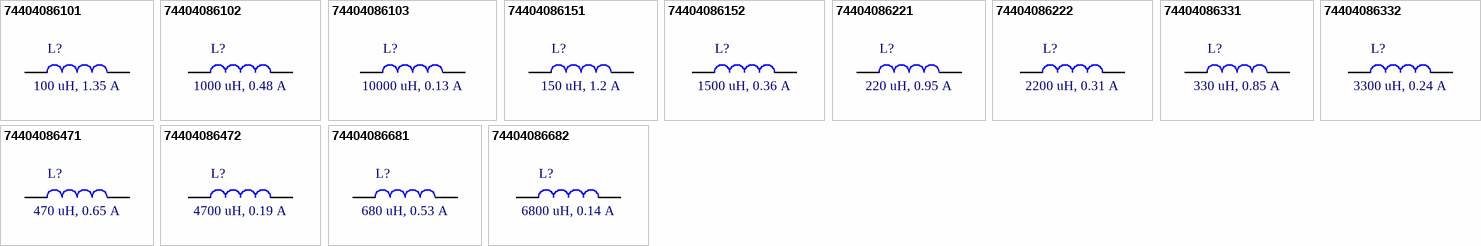
[diagram p12: symbols 74404086101 to 74404086682]

## 74404086101
designator L?, comment 100 uH, 1.35 A
SMT Semi-Shielded Power Inductor WE-LQS, size 8065, 100 uH, 1.35 A; Part Number: 74404086101; Rated Current: 1.35 A; Inductance: 100 uH; DC Resistance max.: 285.6 mOhm; Self Resonant Frequency: 4 MHz; Saturation Current: 2.15 A; ComponentLink1Description: Manufacturer; ComponentLink1URL: http://www.we-online.de; ComponentLink2Description: Datasheet; ComponentLink2URL: https://katalog.we-online.de/pbs/datasheet/74404086101.pdf; Published Date: November 2018; Publisher: Wurth Elektronik; Size: 8065; Operating Temperature: -40 to +125 degC; Mounting Technology: SMT; Packaging: Tape and Reel
footprint WE-LQS_8065
pins: 1, 2

## 74404086102
designator L?, comment 1000 uH, 0.48 A
SMT Semi-Shielded Power Inductor WE-LQS, size 8065, 1000 uH, 0.48 A; Part Number: 74404086102; Rated Current: 0.48 A; Inductance: 1000 uH; DC Resistance max.: 2820 mOhm; Self Resonant Frequency: 1.39 MHz; Saturation Current: 0.65 A; ComponentLink1Description: Manufacturer; ComponentLink1URL: http://www.we-online.de; ComponentLink2Description: Datasheet; ComponentLink2URL: https://katalog.we-online.de/pbs/datasheet/74404086102.pdf; Published Date: November 2018; Publisher: Wurth Elektronik; Size: 8065; Operating Temperature: -40 to +125 degC; Mounting Technology: SMT; Packaging: Tape and Reel
footprint WE-LQS_8065
pins: 1, 2

## 74404086103
designator L?, comment 10000 uH, 0.13 A
SMT Semi-Shielded Power Inductor WE-LQS, size 8065, 10000 uH, 0.13 A; Part Number: 74404086103; Rated Current: 0.13 A; DC Resistance max.: 27360 mOhm; Self Resonant Frequency: 0.411 MHz; Saturation Current: 0.2 A; ComponentLink1Description: Manufacturer; ComponentLink1URL: http://www.we-online.de; ComponentLink2Description: Datasheet; ComponentLink2URL: https://katalog.we-online.de/pbs/datasheet/74404086103.pdf; Published Date: November 2018; Publisher: Wurth Elektronik; Size: 8065; Inductance: 10000 uH; Operating Temperature: -40 to +125 degC; Mounting Technology: SMT; Packaging: Tape and Reel
footprint WE-LQS_8065
pins: 1, 2

## 74404086151
designator L?, comment 150 uH, 1.2 A
SMT Semi-Shielded Power Inductor WE-LQS, size 8065, 150 uH, 1.2 A; Part Number: 74404086151; Rated Current: 1.2 A; Inductance: 150 uH; DC Resistance max.: 426 mOhm; Self Resonant Frequency: 3.2 MHz; Saturation Current: 1.8 A; ComponentLink1Description: Manufacturer; ComponentLink1URL: http://www.we-online.de; ComponentLink2Description: Datasheet; ComponentLink2URL: https://katalog.we-online.de/pbs/datasheet/74404086151.pdf; Published Date: November 2018; Publisher: Wurth Elektronik; Size: 8065; Operating Temperature: -40 to +125 degC; Mounting Technology: SMT; Packaging: Tape and Reel
footprint WE-LQS_8065
pins: 1, 2

## 74404086152
designator L?, comment 1500 uH, 0.36 A
SMT Semi-Shielded Power Inductor WE-LQS, size 8065, 1500 uH, 0.36 A; Part Number: 74404086152; Rated Current: 0.36 A; Inductance: 1500 uH; DC Resistance max.: 4380 mOhm; Self Resonant Frequency: 1.13 MHz; Saturation Current: 0.54 A; ComponentLink1Description: Manufacturer; ComponentLink1URL: http://www.we-online.de; ComponentLink2Description: Datasheet; ComponentLink2URL: https://katalog.we-online.de/pbs/datasheet/74404086152.pdf; Published Date: November 2018; Publisher: Wurth Elektronik; Size: 8065; Operating Temperature: -40 to +125 degC; Mounting Technology: SMT; Packaging: Tape and Reel
footprint WE-LQS_8065
pins: 1, 2

## 74404086221
designator L?, comment 220 uH, 0.95 A
SMT Semi-Shielded Power Inductor WE-LQS, size 8065, 220 uH, 0.95 A; Part Number: 74404086221; Rated Current: 0.95 A; Inductance: 220 uH; DC Resistance max.: 666 mOhm; Self Resonant Frequency: 2.8 MHz; Saturation Current: 1.44 A; ComponentLink1Description: Manufacturer; ComponentLink1URL: http://www.we-online.de; ComponentLink2Description: Datasheet; ComponentLink2URL: https://katalog.we-online.de/pbs/datasheet/74404086221.pdf; Published Date: November 2018; Publisher: Wurth Elektronik; Size: 8065; Operating Temperature: -40 to +125 degC; Mounting Technology: SMT; Packaging: Tape and Reel
footprint WE-LQS_8065
pins: 1, 2

## 74404086222
designator L?, comment 2200 uH, 0.31 A
SMT Semi-Shielded Power Inductor WE-LQS, size 8065, 2200 uH, 0.31 A; Part Number: 74404086222; Rated Current: 0.31 A; Inductance: 2200 uH; DC Resistance max.: 6000 mOhm; Self Resonant Frequency: 0.924 MHz; Saturation Current: 0.45 A; ComponentLink1Description: Manufacturer; ComponentLink1URL: http://www.we-online.de; ComponentLink2Description: Datasheet; ComponentLink2URL: https://katalog.we-online.de/pbs/datasheet/74404086222.pdf; Published Date: November 2018; Publisher: Wurth Elektronik; Size: 8065; Operating Temperature: -40 to +125 degC; Mounting Technology: SMT; Packaging: Tape and Reel
footprint WE-LQS_8065
pins: 1, 2

## 74404086331
designator L?, comment 330 uH, 0.85 A
SMT Semi-Shielded Power Inductor WE-LQS, size 8065, 330 uH, 0.85 A; Part Number: 74404086331; Rated Current: 0.85 A; Inductance: 330 uH; DC Resistance max.: 837.6 mOhm; Self Resonant Frequency: 2.3 MHz; Saturation Current: 1.12 A; ComponentLink1Description: Manufacturer; ComponentLink1URL: http://www.we-online.de; ComponentLink2Description: Datasheet; ComponentLink2URL: https://katalog.we-online.de/pbs/datasheet/74404086331.pdf; Published Date: November 2018; Publisher: Wurth Elektronik; Size: 8065; Operating Temperature: -40 to +125 degC; Mounting Technology: SMT; Packaging: Tape and Reel
footprint WE-LQS_8065
pins: 1, 2

## 74404086332
designator L?, comment 3300 uH, 0.24 A
SMT Semi-Shielded Power Inductor WE-LQS, size 8065, 3300 uH, 0.24 A; Part Number: 74404086332; Rated Current: 0.24 A; Inductance: 3300 uH; DC Resistance max.: 8760 mOhm; Self Resonant Frequency: 0.759 MHz; Saturation Current: 0.36 A; ComponentLink1Description: Manufacturer; ComponentLink1URL: http://www.we-online.de; ComponentLink2Description: Datasheet; ComponentLink2URL: https://katalog.we-online.de/pbs/datasheet/74404086332.pdf; Published Date: November 2018; Publisher: Wurth Elektronik; Size: 8065; Operating Temperature: -40 to +125 degC; Mounting Technology: SMT; Packaging: Tape and Reel
footprint WE-LQS_8065
pins: 1, 2

## 74404086471
designator L?, comment 470 uH, 0.65 A
SMT Semi-Shielded Power Inductor WE-LQS, size 8065, 470 uH, 0.65 A; Part Number: 74404086471; Rated Current: 0.65 A; Inductance: 470 uH; DC Resistance max.: 1440 mOhm; Self Resonant Frequency: 1.8 MHz; Saturation Current: 1.08 A; ComponentLink1Description: Manufacturer; ComponentLink1URL: http://www.we-online.de; ComponentLink2Description: Datasheet; ComponentLink2URL: https://katalog.we-online.de/pbs/datasheet/74404086471.pdf; Published Date: November 2018; Publisher: Wurth Elektronik; Size: 8065; Operating Temperature: -40 to +125 degC; Mounting Technology: SMT; Packaging: Tape and Reel
footprint WE-LQS_8065
pins: 1, 2

## 74404086472
designator L?, comment 4700 uH, 0.19 A
SMT Semi-Shielded Power Inductor WE-LQS, size 8065, 4700 uH, 0.19 A; Part Number: 74404086472; Rated Current: 0.19 A; Inductance: 4700 uH; DC Resistance max.: 14580 mOhm; Self Resonant Frequency: 0.62 MHz; Saturation Current: 0.29 A; ComponentLink1Description: Manufacturer; ComponentLink1URL: http://www.we-online.de; ComponentLink2Description: Datasheet; ComponentLink2URL: https://katalog.we-online.de/pbs/datasheet/74404086472.pdf; Published Date: November 2018; Publisher: Wurth Elektronik; Size: 8065; Operating Temperature: -40 to +125 degC; Mounting Technology: SMT; Packaging: Tape and Reel
footprint WE-LQS_8065
pins: 1, 2

## 74404086681
designator L?, comment 680 uH, 0.53 A
SMT Semi-Shielded Power Inductor WE-LQS, size 8065, 680 uH, 0.53 A; Part Number: 74404086681; Rated Current: 0.53 A; Inductance: 680 uH; DC Resistance max.: 1980 mOhm; Self Resonant Frequency: 1.6 MHz; Saturation Current: 1 A; ComponentLink1Description: Manufacturer; ComponentLink1URL: http://www.we-online.de; ComponentLink2Description: Datasheet; ComponentLink2URL: https://katalog.we-online.de/pbs/datasheet/74404086681.pdf; Published Date: November 2018; Publisher: Wurth Elektronik; Size: 8065; Operating Temperature: -40 to +125 degC; Mounting Technology: SMT; Packaging: Tape and Reel
footprint WE-LQS_8065
pins: 1, 2

## 74404086682
designator L?, comment 6800 uH, 0.14 A
SMT Semi-Shielded Power Inductor WE-LQS, size 8065, 6800 uH, 0.14 A; Part Number: 74404086682; Rated Current: 0.14 A; Inductance: 6800 uH; DC Resistance max.: 22440 mOhm; Self Resonant Frequency: 0.509 MHz; Saturation Current: 0.26 A; ComponentLink1Description: Manufacturer; ComponentLink1URL: http://www.we-online.de; ComponentLink2Description: Datasheet; ComponentLink2URL: https://katalog.we-online.de/pbs/datasheet/74404086682.pdf; Published Date: November 2018; Publisher: Wurth Elektronik; Size: 8065; Operating Temperature: -40 to +125 degC; Mounting Technology: SMT; Packaging: Tape and Reel
footprint WE-LQS_8065
pins: 1, 2